# Altium schematic symbol library PDQ15-Q24-S12-D.SchLib: 1 symbol
Pins are listed as number, name and electrical type; pins without a type are passive.

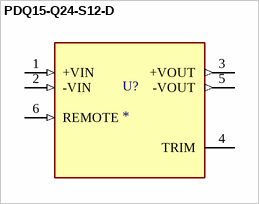
[diagram p0: symbol PDQ15-Q24-S12-D]

## PDQ15-Q24-S12-D
designator U?
12 Vdc, 1.250 A, 15 W, 9 ~ 36 Vdc; MP: PDQ15-Q24-S12-D; MF: {'manufacturer': u'CUI'}; Price: None; Availability: Unavailable; Value: *; Package: None
footprint CONV_PDQ15-Q24-S12-D
pins: 1 +VIN (in), 2 -VIN (in), 3 +VOUT (out), 4 TRIM, 5 -VOUT (out), 6 REMOTE (in)